# Altium footprint library TJ2-6P6C.PcbLib: 1 footprints
Each footprint in its own frame and in the unit in brackets; x right, y up, seen from the top. Pads: shape width x height; smd on the part's side, far side on the other; paste and mask are expansions set on the pad; w line width, h text height; cw(c..) or ccw(c..) is an arc to the next point about the centre after c.
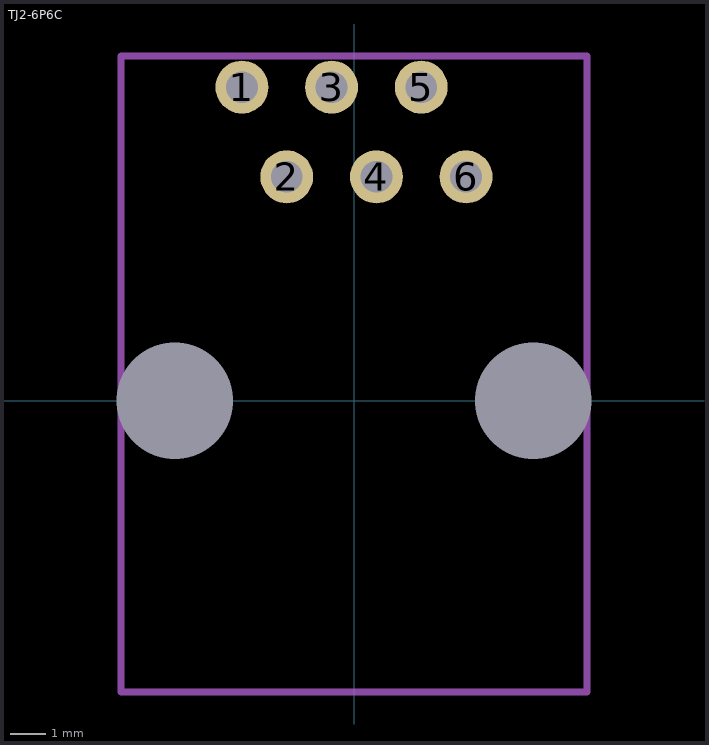
[diagram p0: the footprint, top view; thin cyan lines are the x and y axes]

## TJ2-6P6C [mm]
pads (8):
  round 0 hole 3.3 unplated: 0(-5.08,0) 0(5.08,0)
  round 1.5 hole 0.9: 1(-3.175,8.89) 2(-1.905,6.35) 3(-0.635,8.89) 4(0.635,6.35) 5(1.905,8.89) 6(3.175,6.35)
Mechanical 1:
  text ".Designator" at -4.826,-3.81 h2.5
Mechanical 13:
  lines w0.2: -6.604,-8.255 -6.604,9.779 6.604,9.779 6.604,-8.255 -6.604,-8.255
3D body: height 12.57, standoff -3.81, extent -6.604,-8.255 6.604,9.779